# Altium footprint library D6.3mm_L5.4mm_CAP_SMD.PcbLib: 1 footprints
Each footprint in its own frame and in the unit in brackets; x right, y up, seen from the top. Pads: shape width x height; smd on the part's side, far side on the other; paste and mask are expansions set on the pad; w line width, h text height; cw(c..) or ccw(c..) is an arc to the next point about the centre after c.
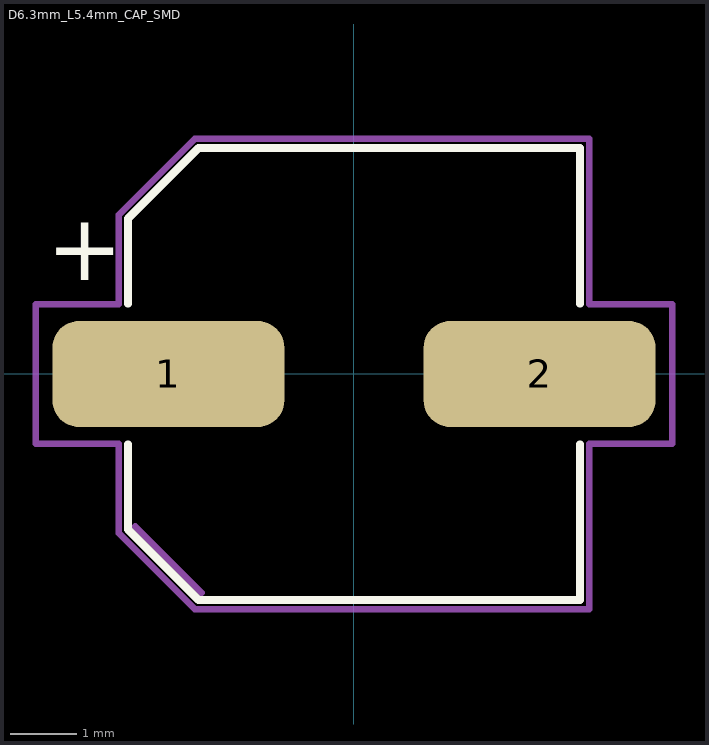
[diagram p0: the footprint, top view; thin cyan lines are the x and y axes]

## D6.3mm_L5.4mm_CAP_SMD [mm] "D6.3mm_L5.4mm_CAP_SMD"
pads (2):
  rrect50% 3.5x1.6 smd: 1(-2.8,0) 2(2.8,0)
Top Overlay:
  lines w0.12: -3.41,-1.06 -3.41,-2.346 -2.346,-3.41 3.41,-3.41 3.41,-1.06 ; -3.41,1.06 -3.41,2.346 -2.346,3.41 3.41,3.41 3.41,1.06
  text "+" at -4.637,1.413 h1
Mechanical 1:
  lines w0.1: -3.3,-2.3 -2.3,-3.3 ; -4.8,-1.05 -4.8,1.05 -3.55,1.05 -3.55,2.4 -2.4,3.55 3.55,3.55 3.55,1.05 4.8,1.05 4.8,-1.05 3.55,-1.05 3.55,-3.55 -2.4,-3.55 -3.55,-2.4 -3.55,-1.05 -4.8,-1.05
  text ".Designator" at 0,0.188 h1
  text "+" at -4.628,1.411 h1
Mechanical 15:
  text "+" at -0.333,-0.5 h1
3D body "CAP_D6.3xL5.4mm.stp": height 5.8, standoff 0, extent -3.65,-3.3 3.65,3.3